# Altium footprint library nogyr.PcbLib: 20 footprints (part 2 of 2)
Each footprint in its own frame and in the unit in brackets; x right, y up, seen from the top. Pads: shape width x height; smd on the part's side, far side on the other; paste and mask are expansions set on the pad; w line width, h text height; cw(c..) or ccw(c..) is an arc to the next point about the centre after c.
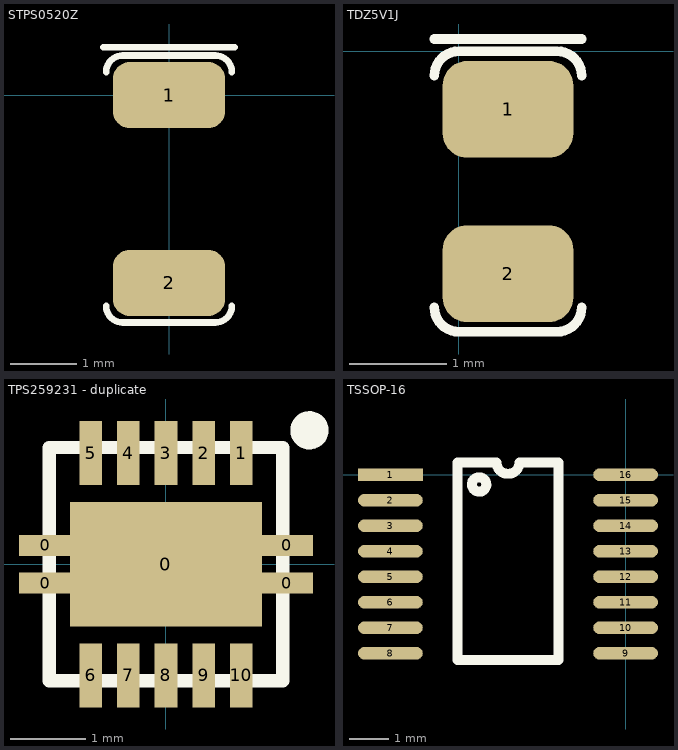
[diagram p1: the footprints below, top view; thin cyan lines are the x and y axes]

## STPS0520Z [mm] "肖特基二极管"
pads (2):
  rrect50% 1.7x1 smd: 1(0,0) 2(0,-2.85)
Top Overlay:
  lines w0.1: -1,0.727 1,0.727 ; -0.954,-3.196 ccw(c-0.7,-3.196) -0.7,-3.45 0.7,-3.45 ccw(c0.7,-3.196) 0.954,-3.196 ; -0.954,0.346 cw(c-0.7,0.346) -0.7,0.6 0.7,0.6 cw(c0.7,0.346) 0.954,0.346

## TDZ5V1J [mm] "齐纳二极管"
pads (2):
  rrect50% 1.35x1 smd: 1(0.508,-0.6) 2(0.508,-2.3)
Top Overlay:
  lines w0.1: -0.254,-2.646 ccw(c0,-2.646) 0,-2.9 1.016,-2.9 ccw(c1.016,-2.646) 1.27,-2.646 ; -0.254,-0.254 cw(c0,-0.254) 0,0 1.016,0 cw(c1.016,-0.254) 1.27,-0.254 ; -0.254,0.127 1.27,0.127

## TPS259231 - duplicate [mm]
pads (15):
  rect 0.7x0.28 smd mask+0.07: 0(-1.602,-0.25) 0(-1.602,0.25) 0(1.602,-0.25) 0(1.602,0.25)
  rect 2.55x1.65 smd: 0(0,0)
  rect 0.3x0.85 smd mask+0.07: 1(1,1.475) 2(0.5,1.475) 3(0,1.475) 4(-0.5,1.475) 5(-1,1.475) 6(-1,-1.475) 7(-0.5,-1.475) 8(0,-1.475) 9(0.5,-1.475) 10(1,-1.475)
Top Overlay:
  circle w0.254: c1.905,1.778 r0.127
  lines w0.178: -1.55,-1.55 1.55,-1.55 1.55,1.55 -1.55,1.55 -1.55,-1.55

## TSSOP-16 [mil]
height 200
pads (16):
  rect 65x12.5 smd: 1(-236,0)
  oval 65x12.5 smd: 2(-236,-25.59) 3(-236,-51.18) 4(-236,-76.77) 5(-236,-102.36) 6(-236,-127.95) 7(-236,-153.54) 8(-236,-179.13) 9(0,-179.13) 10(0,-153.54) 11(0,-127.95) 12(0,-102.36) 13(0,-76.77) 14(0,-51.18) 15(0,-25.59) 16(0,0)
Top Overlay:
  lines w10: -147,-17 cw(c-147,-9.79) -145.98,-16.93 ; -168.5,-186 -168.5,12.5 -129.54,12.5 ccw(c-118,12.5) -106.46,12.5 -67.5,12.5 -67.5,-186 -168.5,-186